# EAGLE library part LTC6820 (library ORBiT-IC-Analog)
Linear Technologies LTC6820 isoSPI Isolated Communications Interface
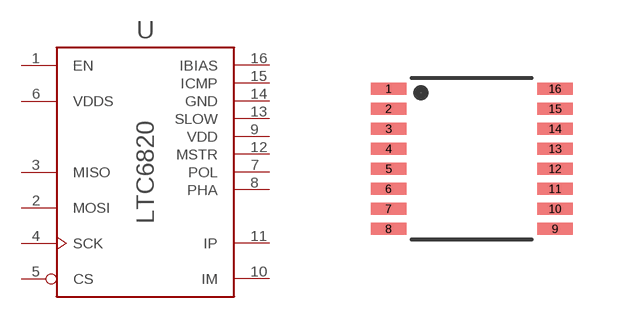
[diagram p0: symbol with the pads of MSOP16; footprint MSOP16]

Designator prefix -

## LTC6820  [MSOP16]
1  EN  pas
2  MOSI  pas
3  MISO  pas
4  SCK  pas
5  CS  pas
6  VDDS  pas
7  POL  pas
8  PHA  pas
9  VDD  pas
10  IM  pas
11  IP  pas
12  MSTR  pas
13  SLOW  pas
14  GND  pas
15  ICMP  pas
16  IBIAS  pas

## Footprint MSOP16 (pad centres in mm)
smd 0.889 x 0.305: 1 -2.083,1.751; 2 -2.083,1.251; 3 -2.083,0.751; 4 -2.083,0.25; 5 -2.083,-0.25; 6 -2.083,-0.751; 7 -2.083,-1.251; 8 -2.083,-1.751; 9 2.083,-1.751; 10 2.083,-1.251; 11 2.083,-0.751; 12 2.083,-0.25; 13 2.083,0.25; 14 2.083,0.751; 15 2.083,1.251; 16 2.083,1.751